# Altium footprint library BA100_CPU_V1.5.1.PcbLib: 26 footprints (part 2 of 2)
Each footprint in its own frame and in the unit in brackets; x right, y up, seen from the top. Pads: shape width x height; smd on the part's side, far side on the other; paste and mask are expansions set on the pad; w line width, h text height; cw(c..) or ccw(c..) is an arc to the next point about the centre after c.
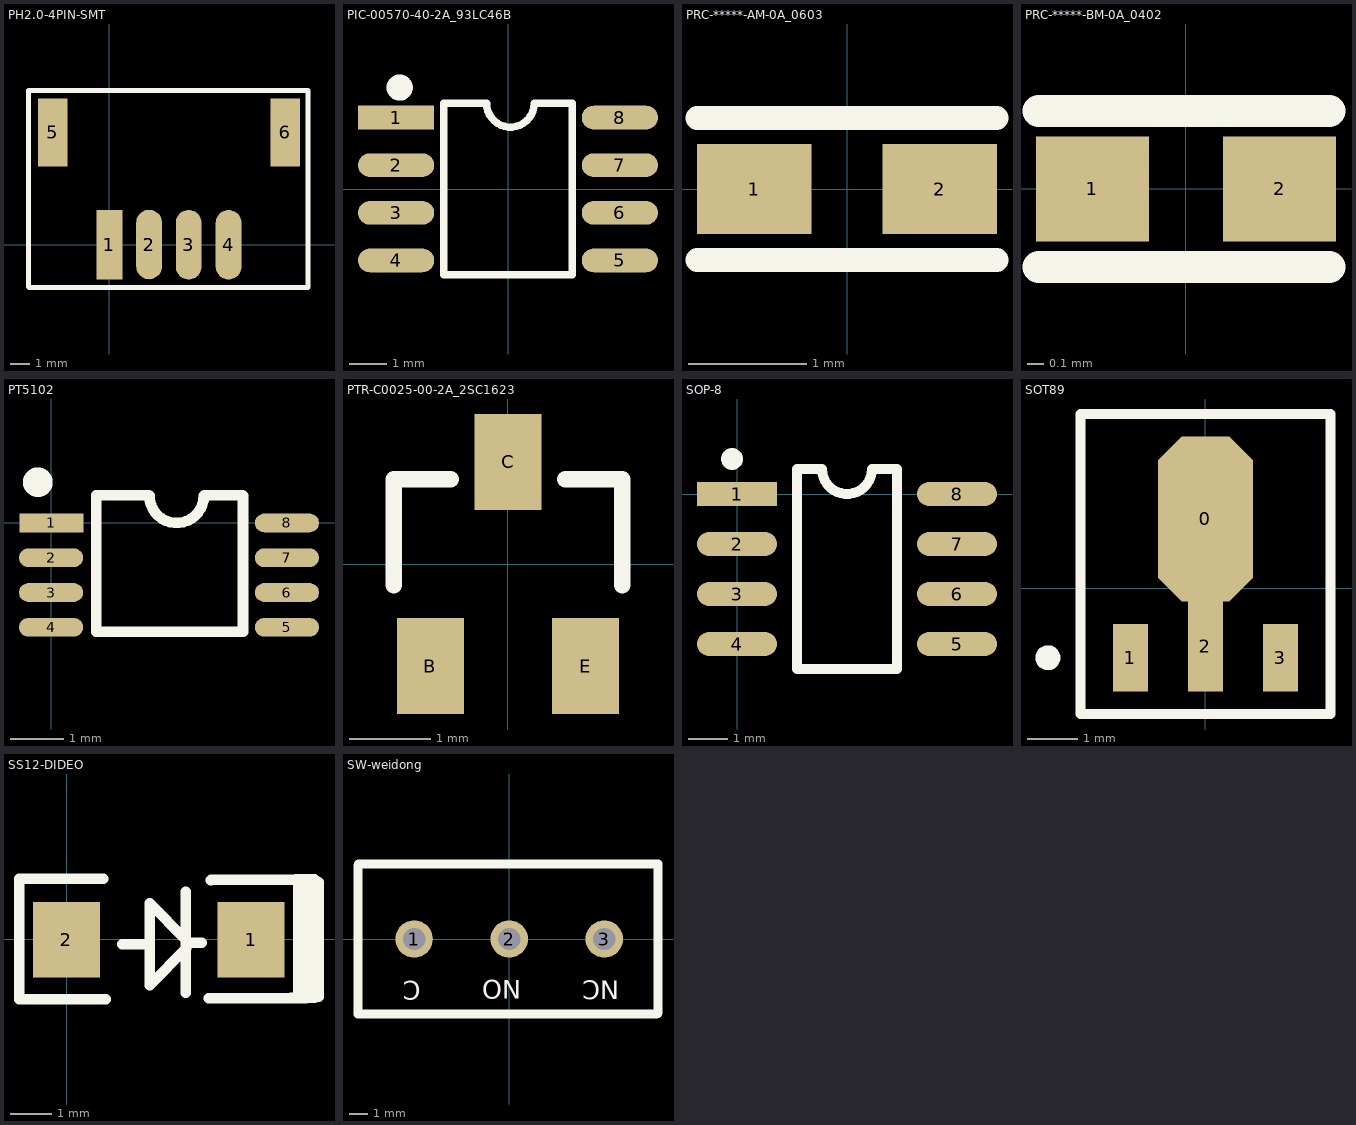
[diagram p1: the footprints below, top view; thin cyan lines are the x and y axes]

## PH2.0-4PIN-SMT [mm]
height 30.4
pads (6):
  rect 1.3x3.5 smd: 1(0,0)
  oval 1.3x3.5 smd: 2(2,0) 3(3.99,-0.01) 4(6,-0.01)
  rect 1.5x3.4 smd: 5(-2.85,5.64) 6(8.85,5.64)
Top Overlay:
  lines w0.25: -4.07,-2.14 -4.07,7.75 10,7.75 10,-2.16 -4.06,-2.16

## PIC-00570-40-2A_93LC46B [mil] "SOIC-8"
height 68.9
pads (8):
  rect 80x25 smd: 1(-117.5,75)
  oval 80x25 smd: 2(-117.5,25) 3(-117.5,-25) 4(-117.5,-75) 5(117.5,-75) 6(117.5,-25) 7(117.5,25) 8(117.5,75)
Top Overlay:
  circle w17.72: c-113.76,106.5 r4.92
  lines w7.87: -67.5,-90 -67.5,90 -22.5,90 ccw(c2.5,90) 27.5,90 67.5,90 67.5,-90 -67.5,-90

## PRC-*****-AM-0A_0603 [mm] "0603"
height 0.45
pads (2):
  rect 0.966x0.762 smd: 1(-0.785,0) 2(0.785,0)
Top Overlay:
  lines w0.2: -1.265,-0.601 1.265,-0.601 ; -1.265,0.601 1.265,0.601

## PRC-*****-BM-0A_0402 [mm] "0402"
height 0.35
pads (2):
  rect 0.7x0.65 smd: 1(-0.58,0) 2(0.58,0)
Top Overlay:
  lines w0.2: -0.912,-0.483 0.888,-0.483 ; -0.912,0.483 0.888,0.483

## PT5102 [mm]
height 3.9
pads (8):
  rect 1.2x0.35 smd: 1(0,0)
  oval 1.2x0.35 smd: 2(-0.006,-0.65) 3(-0.006,-1.3) 4(-0.006,-1.95) 5(4.4,-1.95) 6(4.4,-1.3) 7(4.4,-0.65) 8(4.4,0)
Top Overlay:
  circle w0.3: c-0.254,0.762 r0.127
  lines w0.2: 2.848,0.508 cw(c2.34,0.508) 1.832,0.508 1.82,0.52 0.84,0.52 0.84,-2.032 2.026,-2.032 3.574,-2.032 ; 2.86,0.52 3.57,0.52 3.58,0.51 3.58,-2.032

## PTR-C0025-00-2A_2SC1623 [mm]
height 1.4
pads (3):
  rect 0.816x1.174 smd: B(-0.95,-1.25) C(0,1.251) E(0.95,-1.25)
Top Overlay:
  lines w0.2: -1.4,-0.261 -1.4,1.039 -0.7,1.039 ; 0.7,1.039 1.4,1.039 1.4,-0.261

## SOP-8 [mil]
height 153.54
pads (8):
  rect 80x24 smd: 1(0,0)
  oval 80x24 smd: 2(0,-50) 3(0,-100) 4(0,-150) 5(220,-150) 6(220,-100) 7(220,-50) 8(220,0)
Top Overlay:
  circle w11.81: c-5,35 r5
  lines w10: 60,-175 60,25 85,25 ccw(c110,25) 135,25 160,25 160,-175 60,-175

## SOT89 [mm] "SOT-89; Body 4.6 x 4.25 mm, inc. leads (LxW max)"
height 1.6
pads (4):
  oct 1.9x3.3 smd: 0(0,1.388)
  rect 0.7x1.35 smd: 1(-1.5,-1.388) 3(1.5,-1.388)
  rect 0.7x1.8 smd: 2(0,-1.162)
Top Overlay:
  circle w0.25: c-3.15,-1.388 r0.125
  lines w0.2: -2.5,-2.512 -2.5,3.487 2.5,3.487 2.5,-2.512 -2.5,-2.512

## SS12-DIDEO [mm]
height 30.4
pads (2):
  rect 1.6x1.8 smd: 1(4.41,-0.01) 2(-0.01,-0.01)
Top Overlay:
  lines w0.25: 0.88,1.44 -1.14,1.44 -1.13,1.42 -1.13,-1.42 -1.13,-1.43 0.93,-1.43 ; 1.33,-0.12 1.83,-0.12 ; 2.85,-1.28 2.85,1.14 ; 2.85,-0.09 2.85,-0.01 1.98,0.86 1.98,-1.1 2.86,-0.22 2.86,0 ; 2.96,-0.08 3.23,-0.08 ; 3.39,-1.41 5.52,-1.41 5.53,-1.4 5.53,1.43 5.52,1.42 3.45,1.42 3.44,1.41 ; 5.34,-1.41 5.71,-1.41 5.78,-1.37 5.78,1.42 5.74,1.43 5.48,1.43 ; 5.37,-1.4 5.92,-1.4 6.03,-1.37 6.03,1.36 5.92,1.43 5.65,1.43

## SW-weidong [mm]
pads (3):
  round 2 hole 1.2: 1(-5.08,0) 2(0,0) 3(5.08,0)
Top Overlay:
  lines w0.5: -8.08,-4.01 -8.08,3.93 -8,4.01 ; -8.05,-4.01 7.89,-4.01 7.95,-3.95 7.95,3.95 7.92,3.98 ; -8.05,4.01 7.95,4.01
  text "C" at -4.73,-2.25 h1
  text "NO" at 0.64,-2.2 h1
  text "NC" at 5.89,-2.23 h1